# Altium footprint library 1190365.PcbLib: 1 footprints
Each footprint in its own frame and in the unit in brackets; x right, y up, seen from the top. Pads: shape width x height; smd on the part's side, far side on the other; paste and mask are expansions set on the pad; w line width, h text height; cw(c..) or ccw(c..) is an arc to the next point about the centre after c.
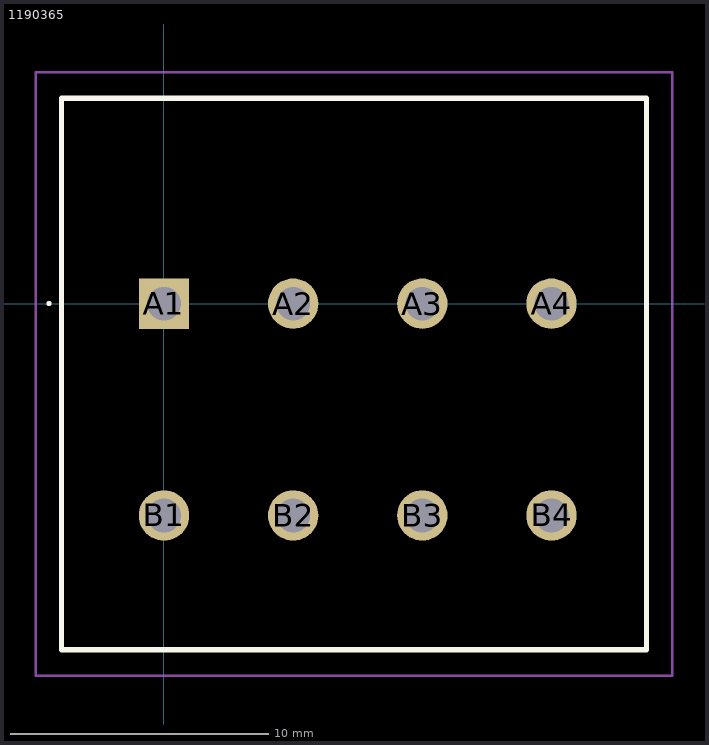
[diagram p0: the footprint, top view; thin cyan lines are the x and y axes]

## 1190365 [mm]
pads (8):
  rect 1.95x1.95 hole 1.3: A1(0,0)
  round 1.95 hole 1.3: A2(5,0) A3(10,0) A4(15,0) B1(0,-8.2) B2(5,-8.2) B3(10,-8.2) B4(15,-8.2)
Top Overlay:
  lines w0.1: -4.5,0 ccw(c-4.45,0) -4.4,0 ccw(c-4.45,0) -4.5,0
  lines w0.2: -3.96,-13.4 -3.96,7.95 18.67,7.95 18.67,-13.4 -3.96,-13.4
Mechanical 15:
  lines w0.1: -3.96,-13.4 -3.96,7.95 18.67,7.95 18.67,-13.4 -3.96,-13.4
Mechanical 20:
  lines w0.1: -4.96,-14.4 -4.96,8.95 19.67,8.95 19.67,-14.4 -4.96,-14.4
3D body "pxc_1190365_02_00_LPTA-2-5-4-5-0_3D.stp": height 20.28, standoff -3.5, extent -3.949,-13.462 18.681,7.888